# EAGLE library part BC846BDW1T1 (library MSA_lib)
Dual NPN Transistor
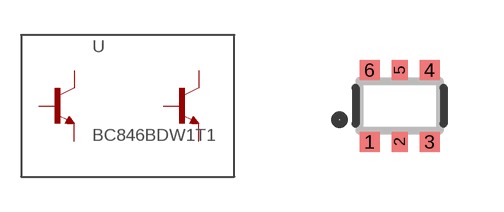
[diagram p30: symbol with the pads of SOT363; footprint SOT363]

Designator prefix U

## BC846BDW1T1 (OC_FARNELL: 2317636)  [SOT363]
1  1  pas
2  2  pas
3  3  pas
4  4  pas
5  5  pas
6  6  pas

## Footprint SOT363 (pad centres in mm)
Source: http://www.nxp.com/documents/data_sheet/2N7002PS.pdf
smd 0.5 x 0.5: 1 -0.75,-0.9; 3 0.75,-0.9; 4 0.75,0.9; 6 -0.75,0.9
smd 0.4 x 0.5: 2 0,-0.9; 5 0,0.9